# Altium schematic symbol library TP4056.SchLib: 1 symbol
Pins are listed as number, name and electrical type; pins without a type are passive.

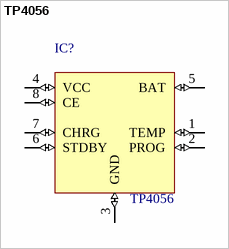
[diagram p0: symbol TP4056]

## TP4056
designator IC?
MF: NanJing Top Power ASIC Corp.; Availability: Unavailable; Package: Package Analog Devices; Price: None; SnapEDA_Link: https://www.snapeda.com/parts/TP4056%20/NanJing%20Top%20Power%20ASIC%20Corp./view-part/?ref=snap; MP: TP4056; Value: *
footprint *SOP-8
pins: 1 TEMP (io), 2 PROG (io), 3 GND (io), 4 VCC (io), 5 BAT (io), 6 STDBY (io), 7 CHRG (io), 8 CE (io)